# EAGLE library part NVT2008BQ,115 (library mbed-HDK-IC)
Bidirectional voltage-level translator 8 CH
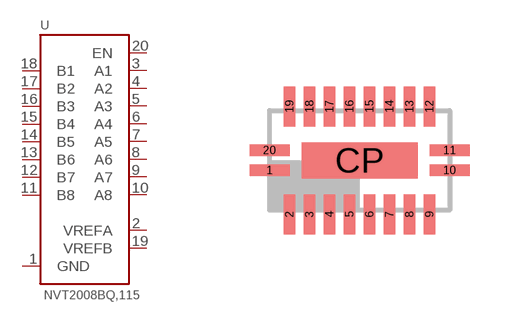
[diagram p30: symbol with the pads of SOT764; footprint SOT764]

Designator prefix U

## NVT2008BQ,115 (MF: NXP; MFN: NVT2008BQ,115; OC-DIGIKEY: 568-5538-1-ND; OC-MOUSER: 771-NVT2008BQ115)  [SOT764]
1  GND  pwr
2  VREFA  pwr
3  A1
4  A2
5  A3
6  A4
7  A5
8  A6
9  A7
10  A8
11  B8
12  B7
13  B6
14  B5
15  B4
16  B3
17  B2
18  B1
19  VREFB  pwr
20  EN  in

## Footprint SOT764 (pad centres in mm)
SOT764 DHVQFN20: plastic dual in-line compatible thermal enhanced very thin quad flat package; no leads; 20 terminals; body 2.5 x 4.5 x 0.85 mm JEDEC: MO-241 IEC: ---
smd 1 x 0.29: 1 -2.25,-0.25; 10 2.25,-0.25; 11 2.25,0.25; 20 -2.25,0.25
smd 0.29 x 1: 2 -1.75,-1.35; 3 -1.25,-1.35; 4 -0.75,-1.35; 5 -0.25,-1.35; 6 0.25,-1.35; 7 0.75,-1.35; 8 1.25,-1.35; 9 1.75,-1.35; 12 1.75,1.35; 13 1.25,1.35; 14 0.75,1.35; 15 0.25,1.35; 16 -0.25,1.35; 17 -0.75,1.35; 18 -1.25,1.35; 19 -1.75,1.35
smd 2.9 x 0.9: CP 0,0